# Altium schematic symbol library 74HC595.SchLib: 1 symbol
Pins are listed as number, name and electrical type; pins without a type are passive.

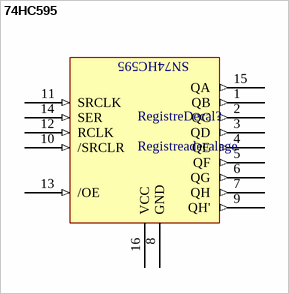
[diagram p0: symbol 74HC595]

## 74HC595
designator RegistreDecal?, comment Registreadecalage
footprint 74HC595
pins: 1 QB (out), 2 QC (out), 3 QD (out), 4 QE (out), 5 QF (out), 6 QG (out), 7 QH (out), 8 GND, 9 QH' (out), 10 /SRCLR (in), 11 SRCLK (in), 12 RCLK (in), 13 /OE (in) "to put at low to make it work", 14 SER (in), 15 QA (out), 16 VCC
text: SN74HC595